# Altium footprint library EVPAE.PcbLib: 1 footprints
Each footprint in its own frame and in the unit in brackets; x right, y up, seen from the top. Pads: shape width x height; smd on the part's side, far side on the other; paste and mask are expansions set on the pad; w line width, h text height; cw(c..) or ccw(c..) is an arc to the next point about the centre after c.
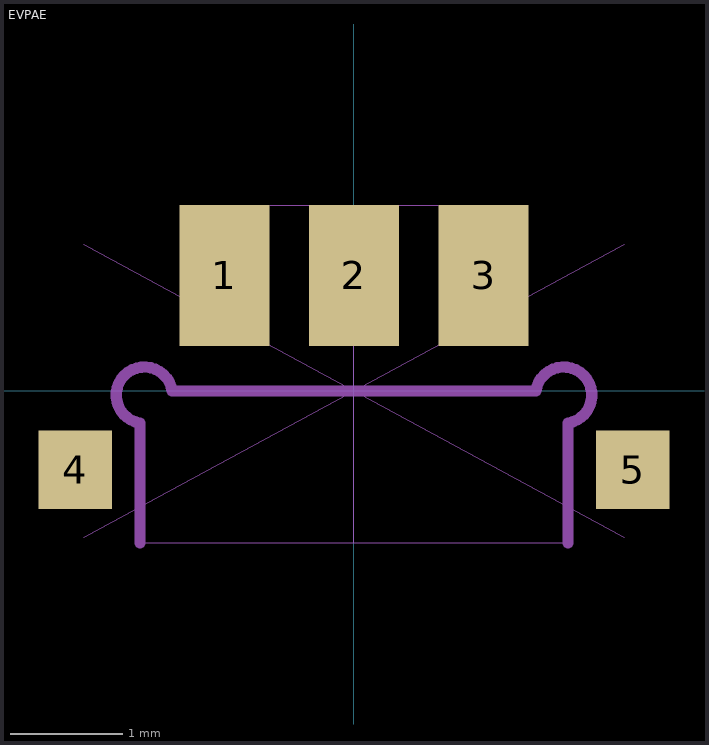
[diagram p0: the footprint, top view; thin cyan lines are the x and y axes]

## EVPAE [mm] "Light Touch Switches/EVPAE"
height 2.9
pads (5):
  rect 0.8x1.25 smd: 1(-1.15,1.025) 2(0,1.025) 3(1.15,1.025)
  rect 0.65x0.7 smd: 4(-2.475,-0.7) 5(2.475,-0.7)
Mechanical 1:
  lines w0.01: -2.4,-1.3 2.4,1.3 ; -2.4,1.3 2.4,-1.3 ; -1.9,-1.35 1.9,-1.35 ; -0.75,1.65 0.75,1.65 ; 0,-1.35 0,0 0,1.65
  lines w0.1: -1.9,-1.35 -1.9,-0.286 cw(c-1.862,-0.038) -1.615,0 1.614,0 cw(c1.862,-0.038) 1.9,-0.285 1.9,-1.35
3D body "EVPAEBB2A.STEP": height 0.95, standoff -2.01, extent -2.345,-1.655 2.455,0.945